# EAGLE library part ATTINY48/88 (library atmel_tiny24-44-84tiny48-88mega48-88-168-328)
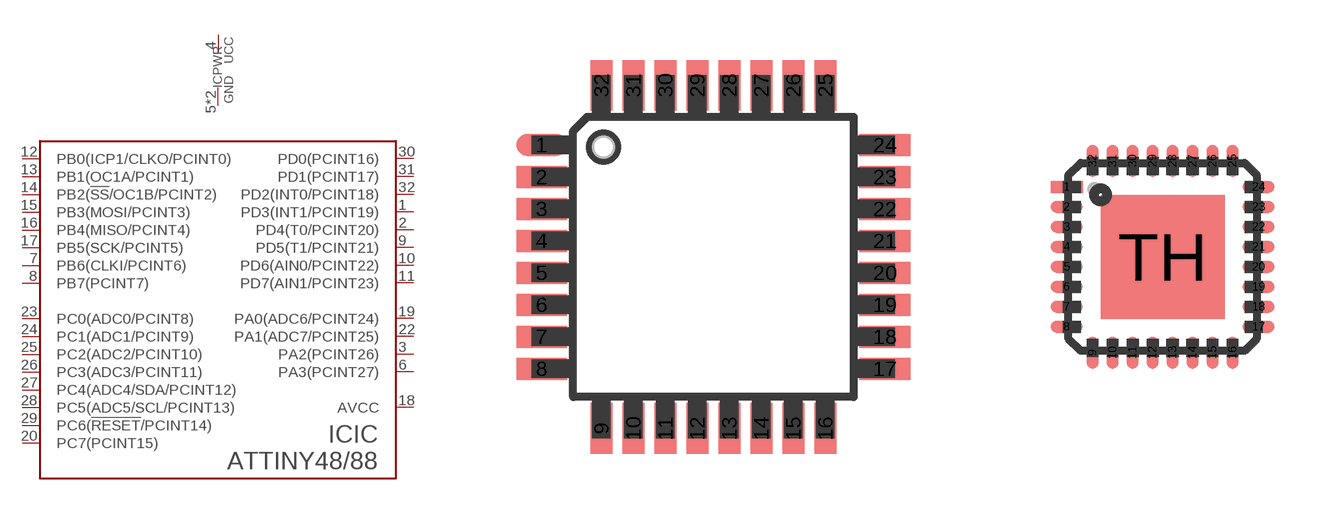
[diagram p5: symbol with the pads of TQFP32-08; footprints TQFP32-08, MLF32]

Designator prefix IC; gates IC=ATTINY48/88 PWR=!UCC+GND

## ATTINY48/88AU  [TQFP32-08]
1  IC:PD3(INT1/PCINT19)
2  IC:PD4(T0/PCINT20)
3  IC:PA2(PCINT26)
4  PWR:UCC  pwr
5  PWR:GND  pwr
6  IC:PA3(PCINT27)
7  IC:PB6(CLKI/PCINT6)
8  IC:PB7(PCINT7)
9  IC:PD5(T1/PCINT21)
10  IC:PD6(AIN0/PCINT22)
11  IC:PD7(AIN1/PCINT23)
12  IC:PB0(ICP1/CLKO/PCINT0)
13  IC:PB1(OC1A/PCINT1)
14  IC:PB2(!SS!/OC1B/PCINT2)
15  IC:PB3(MOSI/PCINT3)
16  IC:PB4(MISO/PCINT4)
17  IC:PB5(SCK/PCINT5)
18  IC:AVCC  pwr
19  IC:PA0(ADC6/PCINT24)
20  IC:PC7(PCINT15)
21  PWR:GND  pwr
22  IC:PA1(ADC7/PCINT25)
23  IC:PC0(ADC0/PCINT8)
24  IC:PC1(ADC1/PCINT9)
25  IC:PC2(ADC2/PCINT10)
26  IC:PC3(ADC3/PCINT11)
27  IC:PC4(ADC4/SDA/PCINT12)
28  IC:PC5(ADC5/SCL/PCINT13)
29  IC:PC6(!RESET!/PCINT14)
30  IC:PD0(PCINT16)
31  IC:PD1(PCINT17)
32  IC:PD2(INT0/PCINT18)

## ATTINY48/88MU  [MLF32]
1  IC:PD3(INT1/PCINT19)
2  IC:PD4(T0/PCINT20)
3  IC:PA2(PCINT26)
4  PWR:UCC  pwr
5  PWR:GND  pwr
6  IC:PA3(PCINT27)
7  IC:PB6(CLKI/PCINT6)
8  IC:PB7(PCINT7)
9  IC:PD5(T1/PCINT21)
10  IC:PD6(AIN0/PCINT22)
11  IC:PD7(AIN1/PCINT23)
12  IC:PB0(ICP1/CLKO/PCINT0)
13  IC:PB1(OC1A/PCINT1)
14  IC:PB2(!SS!/OC1B/PCINT2)
15  IC:PB3(MOSI/PCINT3)
16  IC:PB4(MISO/PCINT4)
17  IC:PB5(SCK/PCINT5)
18  IC:AVCC  pwr
19  IC:PA0(ADC6/PCINT24)
20  IC:PC7(PCINT15)
21  PWR:GND  pwr
22  IC:PA1(ADC7/PCINT25)
23  IC:PC0(ADC0/PCINT8)
24  IC:PC1(ADC1/PCINT9)
25  IC:PC2(ADC2/PCINT10)
26  IC:PC3(ADC3/PCINT11)
27  IC:PC4(ADC4/SDA/PCINT12)
28  IC:PC5(ADC5/SCL/PCINT13)
29  IC:PC6(!RESET!/PCINT14)
30  IC:PD0(PCINT16)
31  IC:PD1(PCINT17)
32  IC:PD2(INT0/PCINT18)
TH  PWR:GND  pwr

## Footprint TQFP32-08 (pad centres in mm)
32A, 32-lead, 7 x 7 mm Body Size, 1.0 mm Body Thickness, 0.8 mm Lead Pitch, Thin Profile Plastic Quad Flat Package (TQFP) Atmel
smd 1.27 x 0.55: 1 -4.293,2.8; 2 -4.293,2; 3 -4.293,1.2; 4 -4.293,0.4; 5 -4.293,-0.4; 6 -4.293,-1.2; 7 -4.293,-2; 8 -4.293,-2.8; 17 4.293,-2.8; 18 4.293,-2; 19 4.293,-1.2; 20 4.293,-0.4; 21 4.293,0.4; 22 4.293,1.2; 23 4.293,2; 24 4.293,2.8
smd 0.55 x 1.27: 9 -2.8,-4.293; 10 -2,-4.293; 11 -1.2,-4.293; 12 -0.4,-4.293; 13 0.4,-4.293; 14 1.2,-4.293; 15 2,-4.293; 16 2.8,-4.293; 25 2.8,4.293; 26 2,4.293; 27 1.2,4.293; 28 0.4,4.293; 29 -0.4,4.293; 30 -1.2,4.293; 31 -2,4.293; 32 -2.8,4.293

## Footprint MLF32 (pad centres in mm)
32M1-A, 32-pad, 5 x 5 x 1.0 mm Body, Lead Pitch 0.50 mm, 3.10 mm Exposed Pad, Micro Lead Frame Package (MLF) Atmel
smd 0.8 x 0.3: 1 -2.4,1.75; 2 -2.4,1.25; 3 -2.4,0.75; 4 -2.4,0.25; 5 -2.4,-0.25; 6 -2.4,-0.75; 7 -2.4,-1.25; 8 -2.4,-1.75; 17 2.4,-1.75; 18 2.4,-1.25; 19 2.4,-0.75; 20 2.4,-0.25; 21 2.4,0.25; 22 2.4,0.75; 23 2.4,1.25; 24 2.4,1.75
smd 0.3 x 0.8: 9 -1.75,-2.4; 10 -1.25,-2.4; 11 -0.75,-2.4; 12 -0.25,-2.4; 13 0.25,-2.4; 14 0.75,-2.4; 15 1.25,-2.4; 16 1.75,-2.4; 25 1.75,2.4; 26 1.25,2.4; 27 0.75,2.4; 28 0.25,2.4; 29 -0.25,2.4; 30 -0.75,2.4; 31 -1.25,2.4; 32 -1.75,2.4
smd 3.1 x 3.1: TH 0,0